# Altium schematic symbol library LM1117MPX-3.3.SchLib: 1 symbol
Pins are listed as number, name and electrical type; pins without a type are passive.

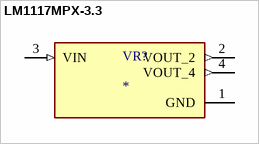
[diagram p0: symbol LM1117MPX-3.3]

## LM1117MPX-3.3
designator VR?
800-mA 15-V linear voltage regulator 4-SOT-223 0 to 125; MF: {'manufacturer': u'Texas Instruments'}; MP: LM1117MPX-3.3; Price: None; Availability: Unavailable; Value: *; Package: None
footprint VREG_LM1117MPX-3.3
pins: 1 GND (power), 2 VOUT_2 (out), 3 VIN (in), 4 VOUT_4 (out)